# Altium footprint library STM32_altium.PcbLib: 11 footprints
Each footprint in its own frame and in the unit in brackets; x right, y up, seen from the top. Pads: shape width x height; smd on the part's side, far side on the other; paste and mask are expansions set on the pad; w line width, h text height; cw(c..) or ccw(c..) is an arc to the next point about the centre after c.
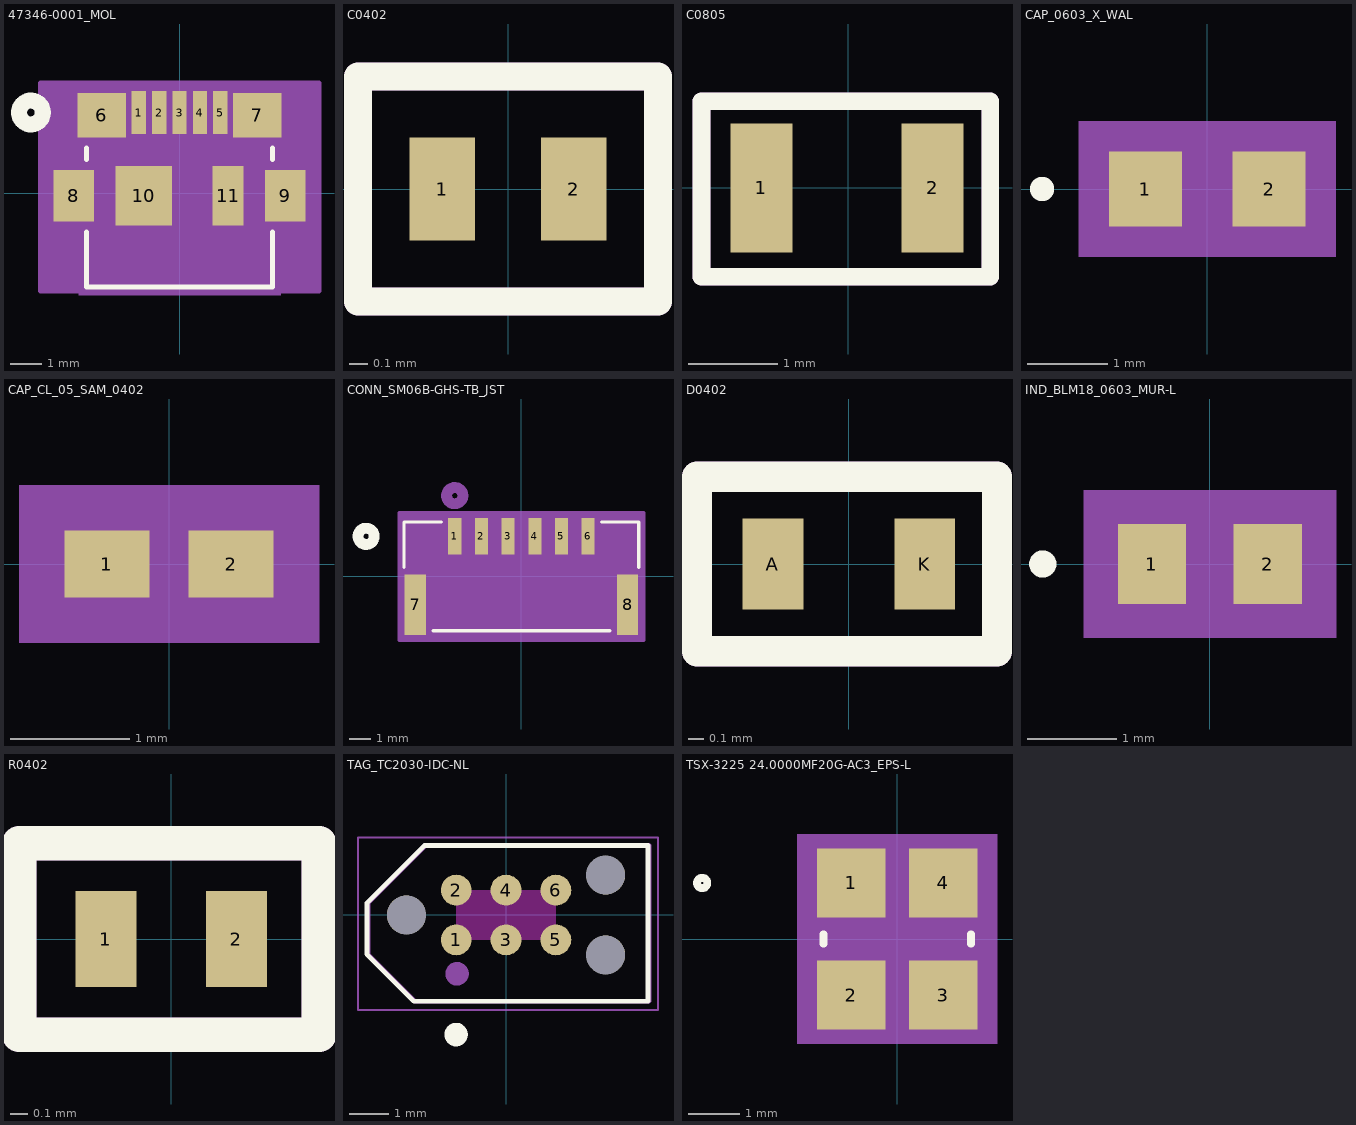
[diagram p0: the footprints below, top view; thin cyan lines are the x and y axes]

## 47346-0001_MOL [mil]
pads (11):
  rect 18x54 smd paste+0 mask+0: 1(-51.18,101.58) 2(-25.59,101.58) 3(0,101.58) 4(25.59,101.58) 5(51.18,101.58)
  rect 61x56 smd: 6(-97.93,98.24) 7(97.93,98.24)
  rect 51x65 smd: 8(-132.87,-3.14) 9(132.87,-3.14)
  rect 71x75 smd: 10(-45.28,-3.14)
  rect 39x75 smd: 11(61,-3.14)
Top Overlay:
  circle w20: c-187,101.58 r15
  lines w6: -117,-48.74 -117,-118 117,-118 117,-48.74 ; -117,42.46 -117,57.14 ; 117,42.46 117,57.14
Bottom Overlay:
  circle w20: c-187,101.58 r15
Mechanical 5:
  region: -127,128 127,128 127,-128 -127,-128
Mechanical 13:
  circle w20: c-51.18,26.58 r15
  lines w1: -112,-113 -112,113 112,113 112,-113 -112,-113
Mechanical 15:
  region: 175.37,138.74 -175.37,138.74 -175.37,-123 175.37,-123
  lines w6: -175.37,-123 175.37,-123 175.37,138.74 -175.37,138.74 -175.37,-123
3D body: height 10, standoff 0, extent 0,0 10,10

## C0402 [mm]
pads (2):
  rect 0.35x0.55 smd: 1(-0.35,0) 2(0.35,0)
Top Overlay:
  lines w0.15: -0.8,-0.6 0.8,-0.6 0.8,0.6 -0.8,0.6 -0.8,-0.6
Mechanical 29:
  lines w0.15: -0.8,-0.6 0.8,-0.6 0.8,0.6 -0.8,0.6 -0.8,-0.6
  text "'.Designator'" at -0.7,-0.267 h0.7
3D body "CAP_0402_N_WAL.step": height 0.57, standoff 0, extent -0.521,-0.279 0.521,0.279

## C0805 [mm]
pads (2):
  rect 0.7x1.45 smd: 1(-0.975,0) 2(0.95,0)
Top Overlay:
  lines w0.2: -1.65,-1 -1.65,0.975 1.6,0.975 1.6,-1 -1.65,-1
Mechanical 29:
  lines w0.2: -1.65,-1 -1.65,0.975 1.6,0.975 1.6,-1 -1.65,-1
  text "'.Designator'" at -1.325,-0.667 h0.7
3D body "CAP_CL_21_SAM.step": height 1.35, standoff 0, extent -1.05,-0.692 1.058,0.654

## CAP_0603_X_WAL [mil]
pads (2):
  rect 36x37 smd paste+0 mask+0: 1(-30.5,0) 2(30.5,0)
Top Overlay:
  circle w6: c-81.5,0 r3
Mechanical 5:
  region: 63.5,-33.5 -63.5,-33.5 -63.5,33.5 63.5,33.5
Mechanical 13:
  circle w0: c-24.5,0 r3
  lines w1: -34.5,-18.5 -34.5,18.5 ; -34.5,-18.5 -12.5,-18.5 -12.5,18.5 -34.5,18.5 ; -34.5,-18.5 34.5,-18.5 ; -34.5,-18.5 -34.5,18.5 ; -34.5,18.5 34.5,18.5 ; 34.5,-18.5 12.5,-18.5 12.5,18.5 34.5,18.5 ; 34.5,-18.5 34.5,18.5 ; 34.5,-18.5 34.5,18.5
Mechanical 15:
  region: 58.5,-28.5 -58.5,-28.5 -58.5,28.5 58.5,28.5
  lines w6: -58.5,-28.5 -58.5,28.5 58.5,28.5 58.5,-28.5 -58.5,-28.5
3D body "CAP_0603_X_WAL.step": height 37.01, standoff 0, extent -34.49,-18.5 34.49,18.5

## CAP_CL_05_SAM_0402 [mil]
pads (2):
  rect 28x22 smd paste+0 mask+0: 1(-20.5,0) 2(20.5,0)
Mechanical 5:
  region: 49.5,-26 -49.5,-26 -49.5,26 49.5,26
Mechanical 13:
  lines w1: -20.5,-11 -20.5,11 ; -20.5,-11 -6.5,-11 -6.5,11 -20.5,11 ; -20.5,-11 20.5,-11 ; -20.5,-11 -20.5,11 ; -20.5,11 20.5,11 ; 20.5,-11 6.5,-11 6.5,11 20.5,11 ; 20.5,-11 20.5,11 ; 20.5,-11 20.5,11
Mechanical 15:
  region: 44.5,-21 -44.5,-21 -44.5,21 44.5,21
  lines w6: -44.5,-21 -44.5,21 44.5,21 44.5,-21 -44.5,-21
3D body "CAP_CL_05_SAM.step": height 22.01, standoff 0, extent -20.51,-10.98 20.51,10.98

## CONN_SM06B-GHS-TB_JST [mil]
pads (8):
  rect 24x67 smd paste+0 mask+0: 1(-123.03,73.85) 2(-73.82,73.85) 3(-24.61,73.85) 4(24.61,73.85) 5(73.82,73.85) 6(123.03,73.85)
  rect 39x112 smd: 7(-195.87,-52.14) 8(195.87,-52.14)
Top Overlay:
  circle w20: c-286.5,73.85 r15
  lines w6: -216.5,16.91 -216.5,100.5 -148.13,100.5 ; -163.27,-100.5 163.27,-100.5 ; 148.13,100.5 216.5,100.5 216.5,16.91
Bottom Overlay:
  circle w20: c-286.5,73.85 r15
Mechanical 5:
  region: -226.5,110.5 226.5,110.5 226.5,-110.5 -226.5,-110.5
Mechanical 13:
  circle w20: c-123.03,148.85 r15
  lines w1: -211.5,-95.5 211.5,-95.5 211.5,95.5 -211.5,95.5 -211.5,-95.5
Mechanical 15:
  region: 225.37,118.11 -225.37,118.11 -225.37,-117.37 225.37,-117.37
  lines w6: -225.37,-118.14 -225.37,117.35 225.37,117.35 225.37,-118.14 -225.37,-118.14
3D body "SM06B-GHS-TB.stp": height 167.83, standoff -1.47, extent -211.61,-96.46 211.61,94.49
3D body: height 10, standoff 0, extent 0,0 10,10

## D0402 [mm]
pads (2):
  rect 0.4x0.6 smd: A(-0.5,0) K(0.5,0)
Top Overlay:
  lines w0.2: -1,-0.575 0.975,-0.575 0.975,0.575 -1,0.575 -1,-0.575
Mechanical 29:
  lines w0.2: -1,-0.575 0.975,-0.575 0.975,0.575 -1,0.575 -1,-0.575
  text "'.Designator'" at -0.9,-0.358 h0.35
3D body "User Library-LED_1006_G.STEP": height 0.2, standoff 0, extent -0.493,-0.304 0.507,0.296

## IND_BLM18_0603_MUR-L [mil]
pads (2):
  rect 30x35 smd paste+0 mask+0: 1(-25.5,0) 2(25.5,0)
Top Overlay:
  circle w6: c-73.5,0 r3
Mechanical 5:
  region: 55.5,-32.5 -55.5,-32.5 -55.5,32.5 55.5,32.5
Mechanical 13:
  circle w0: c-20.5,0 r3
  lines w1: -34.5,-18.5 -34.5,18.5 ; -34.5,-18.5 -10.5,-18.5 -10.5,18.5 -34.5,18.5 ; -34.5,-18.5 34.5,-18.5 ; -34.5,-18.5 -34.5,18.5 ; -34.5,18.5 34.5,18.5 ; 34.5,-18.5 10.5,-18.5 10.5,18.5 34.5,18.5 ; 34.5,-18.5 34.5,18.5 ; 34.5,-18.5 34.5,18.5
Mechanical 15:
  region: 44.5,-21.5 -44.5,-21.5 -44.5,21.5 44.5,21.5
  lines w6: -44.5,-21.5 -44.5,21.5 44.5,21.5 44.5,-21.5 -44.5,-21.5
3D body "IND_BLM18_0603_MUR.step": height 37.01, standoff 0, extent -34.49,-18.5 34.49,18.5

## R0402 [mm]
pads (2):
  rect 0.35x0.55 smd: 1(-0.375,0) 2(0.375,0)
Top Overlay:
  lines w0.2: -0.875,-0.55 0.85,-0.55 0.85,0.55 -0.875,0.55 -0.875,-0.55
Mechanical 29:
  lines w0.2: -0.875,-0.55 0.85,-0.55 0.85,0.55 -0.875,0.55 -0.875,-0.55
  text "'.Designator'" at -0.775,-0.333 h0.35
3D body "RC0402N_YAG.step": height 0.71, standoff 0, extent -0.522,-0.263 0.544,0.245

## TAG_TC2030-IDC-NL [mil]
pads (9):
  round 30.98 smd paste-39.37: 1(-50,-25) 2(-50,25) 3(0,-25) 4(0,25) 5(50,-25) 6(50,25)
  round 39.02 hole 39.02 unplated: ""(-100,0) ""(100,-40) ""(100,40)
Top Overlay:
  circle w11.81: c-50.2,-120.08 r5.91
  lines w5: -139.76,-39.37 -139.76,11.81 -81.69,69.88 142.72,69.88 142.72,-86.61 -92.52,-86.61 -139.76,-39.37
Keep-Out Layer:
  region: 50,-25.03 -50.06,-25.03 -50.06,25 50,25
Mechanical 13:
  circle w11.81: c-49.21,-59.06 r5.91
  lines w5: -138.78,-39.37 -138.78,11.81 -80.71,69.88 143.7,69.88 143.7,-86.61 -91.54,-86.61 -138.78,-39.37
Mechanical 15:
  lines w1.97: -148.62,-95.47 -148.62,77.76 152.56,77.76 152.56,-95.47 -148.62,-95.47

## TSX-3225 24.0000MF20G-AC3_EPS-L [mil]
pads (4):
  rect 53x53 smd paste+0 mask+0: 1(-35.63,43.31) 2(-35.63,-43.31) 3(35.63,-43.31) 4(35.63,43.31)
Top Overlay:
  circle w6: c-150.75,43.31 r4
  lines w6: -57,-3.71 -57,3.71 ; 57,-3.71 57,3.71
Mechanical 5:
  region: 77.13,-81 -77.13,-81 -77.13,81 77.13,81
Mechanical 13:
  circle w0: c-9.13,43.31 r3
  lines w0: -12,66 ccw(c0,66) 12,66
  lines w1: -52,-66 -52,66 52,66 52,-66 -52,-66
Mechanical 15:
  region: -56,-73.81 -66.13,-73.81 -66.13,73.81 -56,73.81 -56,70 56,70 56,73.81 66.13,73.81 66.13,-73.81 56,-73.81 56,-70 -56,-70
  lines w6: -66.13,-73.81 -56,-73.81 -56,-70 56,-70 56,-73.81 66.13,-73.81 66.13,73.81 56,73.81 56,70 -56,70 -56,73.81 -66.13,73.81 -66.13,-73.81
3D body: height 10, standoff 0, extent 0,0 10,10